# EAGLE library part ADP2302ARDZ-5.0-R7 (library ADP2302ARDZ-5.0-R7)
Switching Voltage Regulators 2A 700KHz NonSync Step-Down Source: Datasheet
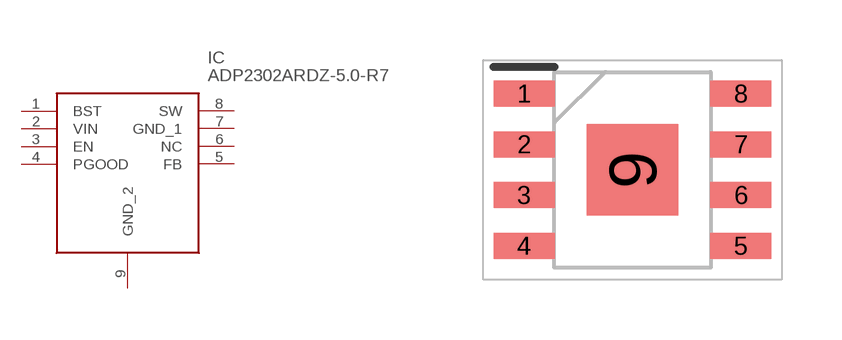
[diagram p0: symbol with the pads of SOIC127P600X175-9N; footprint SOIC127P600X175-9N]

Designator prefix IC

## ADP2302ARDZ-5.0-R7 (Description: Switching Voltage Regulators 2A 700KHz NonSync Step-Down; Height: 1.75mm; Manufacturer_Name: Analog Devices; Manufacturer_Part_Number: ADP2302ARDZ-5.0-R7; Mouser_Part_Number: 584-ADP2302ARDZ5.0R7; Mouser_Price-Stock: https://www.mouser.co.uk/ProductDetail/Analog-Devices/ADP2302ARDZ-5.0-R7?qs=WIvQP4zGanhELCNRRyZF%252Bw%3D%3D)  [SOIC127P600X175-9N]
1  BST
2  VIN
3  EN
4  PGOOD
5  FB
6  NC  nc
7  GND_1
8  SW
9  GND_2

## Footprint SOIC127P600X175-9N (pad centres in mm)
ADP2302ARDZ-5.0-R7-1
smd 1.525 x 0.65: 1 -2.712,1.905; 2 -2.712,0.635; 3 -2.712,-0.635; 4 -2.712,-1.905; 5 2.712,-1.905; 6 2.712,-0.635; 7 2.712,0.635; 8 2.712,1.905
smd 2.29 x 2.29: 9 0,0